# Altium footprint library Coilcraft_Y8844_AL_0.PcbLib: 1 footprints
Each footprint in its own frame and in the unit in brackets; x right, y up, seen from the top. Pads: shape width x height; smd on the part's side, far side on the other; paste and mask are expansions set on the pad; w line width, h text height; cw(c..) or ccw(c..) is an arc to the next point about the centre after c.
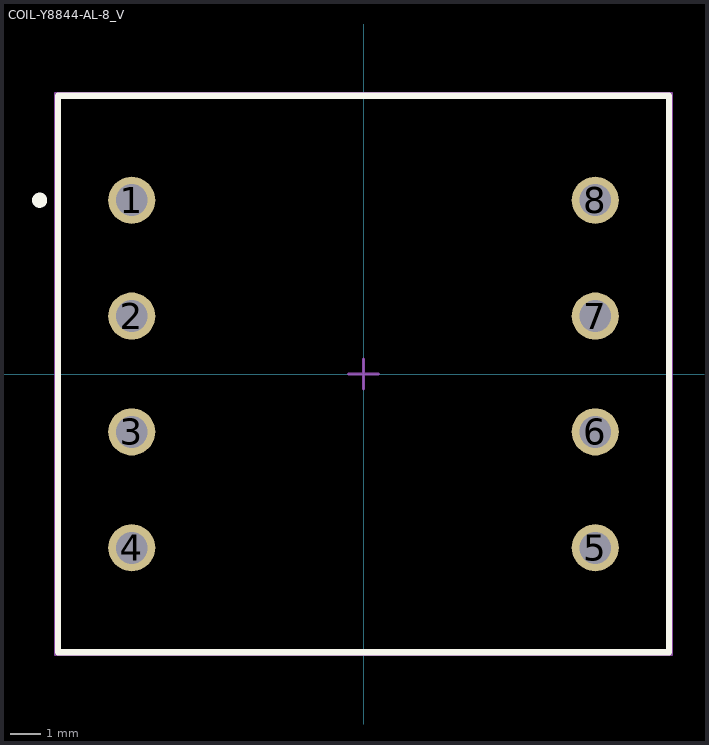
[diagram p0: the footprint, top view; thin cyan lines are the x and y axes]

## COIL-Y8844-AL-8_V [mm] "Hand Drawn, 8-Leads, Body 18.3x20.1mm"
height 14
pads (8):
  round 1.55 hole 1.05: 1(-7.62,5.715) 2(-7.62,1.905) 3(-7.62,-1.905) 4(-7.62,-5.715) 5(7.62,-5.715) 6(7.62,-1.905) 7(7.62,1.905) 8(7.62,5.715)
Top Overlay:
  circle w0.25: c-10.65,5.715 r0.125
  lines w0.2: -10.05,-9.15 -10.05,9.15 10.05,9.15 10.05,-9.15 -10.05,-9.15
Mechanical 13:
  lines w0.1: -10.05,-9.15 -10.05,9.15 10.05,9.15 10.05,-9.15 -10.05,-9.15
Mechanical 15:
  lines w0.05: -10.15,-9.25 -10.15,9.25 10.15,9.25 10.15,-9.25 -10.15,-9.25
  lines w0.1: -0.5,0 0.5,0 ; 0,-0.5 0,0.5
3D body: height 14, standoff 0, extent -10.05,-9.15 10.05,9.15